# Altium schematic symbol library Resistor.SchLib: 52 symbols
Pins are listed as number, name and electrical type; pins without a type are passive.

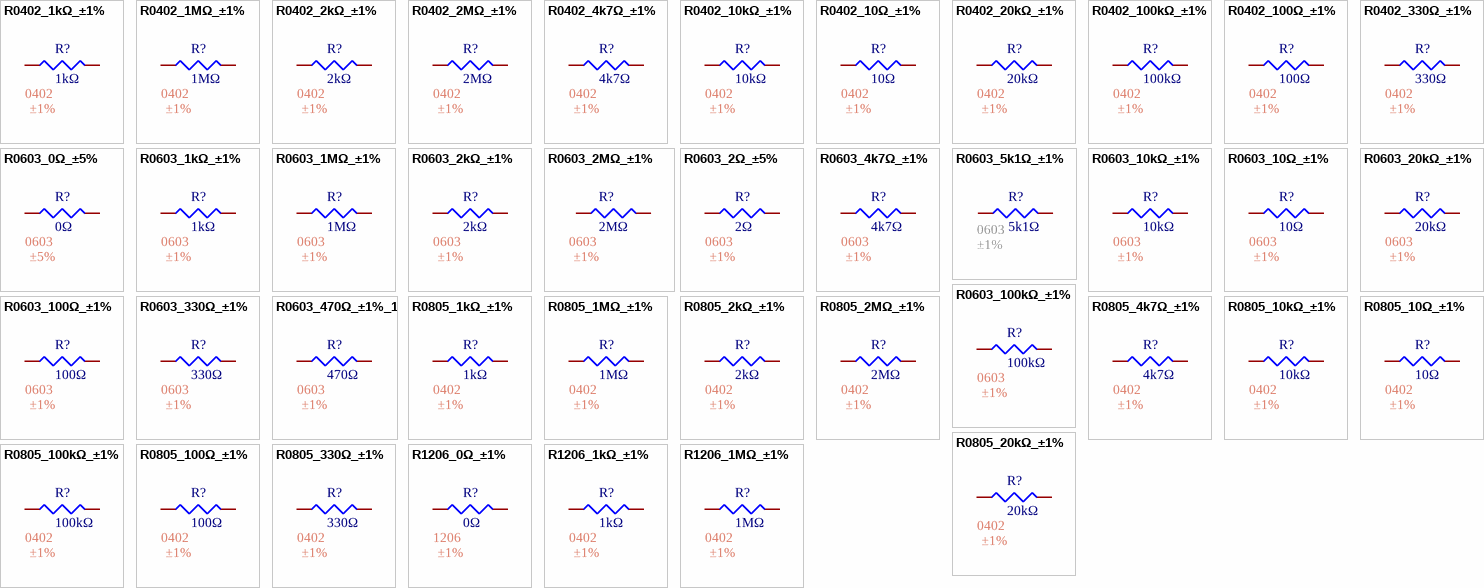
[diagram p0: symbols R0402_1kΩ_±1% to R1206_1MΩ_±1%]

## R0402_1kΩ_±1%
designator R?, comment 1kΩ  Tolerance: ±1%  Package: 0402
62.5mW Thick Film Resistor 50V ±1% ±200ppm/℃ 10Ω 0402 Chip Resistor - Surface Mount ROHS; Manufacturer: YAGEO; Mfr. Part #: RC0402FR-0710RL; LCSC Part #: C138066; Resistance: 1kΩ; Link: https://www.lcsc.com/product-detail/C138066.html?s_z=n_resistor%25200402%252010R
footprint R0402
pins: 1, 2

## R0402_1MΩ_±1%
designator R?, comment 1MΩ  Tolerance: ±1%  Package: 0402
62.5mW Thick Film Resistor 50V ±1% ±200ppm/℃ 10Ω 0402 Chip Resistor - Surface Mount ROHS; Manufacturer: YAGEO; Mfr. Part #: RC0402FR-0710RL; LCSC Part #: C138066; Resistance: 1MΩ; Link: https://www.lcsc.com/product-detail/C138066.html?s_z=n_resistor%25200402%252010R
footprint R0402
pins: 1, 2

## R0402_2kΩ_±1%
designator R?, comment 2kΩ  Tolerance: ±1%  Package: 0402
62.5mW Thick Film Resistor 50V ±1% ±200ppm/℃ 10Ω 0402 Chip Resistor - Surface Mount ROHS; Manufacturer: YAGEO; Mfr. Part #: RC0402FR-0710RL; LCSC Part #: C138066; Resistance: 2kΩ; Link: https://www.lcsc.com/product-detail/C138066.html?s_z=n_resistor%25200402%252010R
footprint R0402
pins: 1, 2

## R0402_2MΩ_±1%
designator R?, comment 2MΩ  Tolerance: ±1%  Package: 0402
62.5mW Thick Film Resistor 50V ±1% ±200ppm/℃ 10Ω 0402 Chip Resistor - Surface Mount ROHS; Manufacturer: YAGEO; Mfr. Part #: RC0402FR-0710RL; LCSC Part #: C138066; Resistance: 2MΩ; Link: https://www.lcsc.com/product-detail/C138066.html?s_z=n_resistor%25200402%252010R
footprint R0402
pins: 1, 2

## R0402_4k7Ω_±1%
designator R?, comment 4k7Ω  Tolerance: ±1%  Package: 0402
62.5mW Thick Film Resistor 50V ±1% ±200ppm/℃ 10Ω 0402 Chip Resistor - Surface Mount ROHS; Manufacturer: YAGEO; Mfr. Part #: RC0402FR-0710RL; LCSC Part #: C138066; Resistance: 4k7Ω; Link: https://www.lcsc.com/product-detail/C138066.html?s_z=n_resistor%25200402%252010R
footprint R0402
pins: 1, 2

## R0402_10kΩ_±1%
designator R?, comment 10kΩ  Tolerance: ±1%  Package: 0402
62.5mW Thick Film Resistor 50V ±1% ±200ppm/℃ 10Ω 0402 Chip Resistor - Surface Mount ROHS; Manufacturer: YAGEO; Mfr. Part #: RC0402FR-0710RL; LCSC Part #: C138066; Resistance: 10kΩ; Link: https://www.lcsc.com/product-detail/C138066.html?s_z=n_resistor%25200402%252010R
footprint R0402
pins: 1, 2

## R0402_10Ω_±1%
designator R?, comment 10Ω  Tolerance: ±1%  Package: 0402
62.5mW Thick Film Resistor 50V ±1% ±200ppm/℃ 10Ω 0402 Chip Resistor - Surface Mount ROHS; Manufacturer: YAGEO; Mfr. Part #: RC0402FR-0710RL; LCSC Part #: C138066; Resistance: 10Ω; Link: https://www.lcsc.com/product-detail/C138066.html?s_z=n_resistor%25200402%252010R
footprint R0402
pins: 1, 2

## R0402_20kΩ_±1%
designator R?, comment 20kΩ  Tolerance: ±1%  Package: 0402
62.5mW Thick Film Resistor 50V ±1% ±200ppm/℃ 10Ω 0402 Chip Resistor - Surface Mount ROHS; Manufacturer: YAGEO; Mfr. Part #: RC0402FR-0710RL; LCSC Part #: C138066; Resistance: 20kΩ; Link: https://www.lcsc.com/product-detail/C138066.html?s_z=n_resistor%25200402%252010R
footprint R0402
pins: 1, 2

## R0402_100kΩ_±1%
designator R?, comment 100kΩ  Tolerance: ±1%  Package: 0402
62.5mW Thick Film Resistor 50V ±1% ±200ppm/℃ 10Ω 0402 Chip Resistor - Surface Mount ROHS; Manufacturer: YAGEO; Mfr. Part #: RC0402FR-0710RL; LCSC Part #: C138066; Resistance: 100kΩ; Link: https://www.lcsc.com/product-detail/C138066.html?s_z=n_resistor%25200402%252010R
footprint R0402
pins: 1, 2

## R0402_100Ω_±1%
designator R?, comment 100Ω  Tolerance: ±1%  Package: 0402
62.5mW Thick Film Resistor 50V ±1% ±200ppm/℃ 10Ω 0402 Chip Resistor - Surface Mount ROHS; Manufacturer: YAGEO; Mfr. Part #: RC0402FR-0710RL; LCSC Part #: C138066; Resistance: 100Ω; Link: https://www.lcsc.com/product-detail/C138066.html?s_z=n_resistor%25200402%252010R
footprint R0402
pins: 1, 2

## R0402_330Ω_±1%
designator R?, comment 330Ω  Tolerance: ±1%  Package: 0402
62.5mW Thick Film Resistor 50V ±1% ±200ppm/℃ 10Ω 0402 Chip Resistor - Surface Mount ROHS; Manufacturer: YAGEO; Mfr. Part #: RC0402FR-0710RL; LCSC Part #: C138066; Resistance: 330Ω; Link: https://www.lcsc.com/product-detail/C138066.html?s_z=n_resistor%25200402%252010R
footprint R0402
pins: 1, 2

## R0603_0Ω_±5%
designator R?, comment 0Ω  Tolerance: ±5%  Package: 0603
100mW Thick Film Resistor 75V ±5% 0Ω 0603 Chip Resistor - Surface Mount ROHS; Manufacturer: YAGEO; Mfr. Part #: RC0603JR-070RL; Key Attributes: RES 0Ω ±5% 100mW 0603; LCSC Part #: C95177; Resistance: 0Ω; Link: https://www.lcsc.com/product-detail/C138066.html?s_z=n_resistor%25200402%252010R
footprint R0603
pins: 1, 2

## R0603_1kΩ_±1%
designator R?, comment 1kΩ  Tolerance: ±1%  Package: 0603
62.5mW Thick Film Resistor 50V ±1% ±200ppm/℃ 10Ω 0402 Chip Resistor - Surface Mount ROHS; Manufacturer: YAGEO; Mfr. Part #: RC0402FR-0710RL; LCSC Part #: C138066; Resistance: 1kΩ; Link: https://www.lcsc.com/product-detail/C138066.html?s_z=n_resistor%25200402%252010R
footprint R0603
pins: 1, 2

## R0603_1MΩ_±1%
designator R?, comment 1MΩ  Tolerance: ±1%  Package: 0603
62.5mW Thick Film Resistor 50V ±1% ±200ppm/℃ 10Ω 0402 Chip Resistor - Surface Mount ROHS; Manufacturer: YAGEO; Mfr. Part #: RC0402FR-0710RL; LCSC Part #: C138066; Resistance: 1MΩ; Link: https://www.lcsc.com/product-detail/C138066.html?s_z=n_resistor%25200402%252010R
footprint R0603
pins: 1, 2

## R0603_2kΩ_±1%
designator R?, comment 2kΩ  Tolerance: ±1%  Package: 0603
62.5mW Thick Film Resistor 50V ±1% ±200ppm/℃ 10Ω 0402 Chip Resistor - Surface Mount ROHS; Manufacturer: YAGEO; Mfr. Part #: RC0402FR-0710RL; LCSC Part #: C138066; Resistance: 2kΩ; Link: https://www.lcsc.com/product-detail/C138066.html?s_z=n_resistor%25200402%252010R
footprint R0603
pins: 1, 2

## R0603_2MΩ_±1%
designator R?, comment 2MΩ  Tolerance: ±1%  Package: 0603
62.5mW Thick Film Resistor 50V ±1% ±200ppm/℃ 10Ω 0402 Chip Resistor - Surface Mount ROHS; Manufacturer: YAGEO; Mfr. Part #: RC0402FR-0710RL; LCSC Part #: C138066; Resistance: 2MΩ; Link: https://www.lcsc.com/product-detail/C138066.html?s_z=n_resistor%25200402%252010R
footprint R0603
pins: 1, 2

## R0603_2Ω_±5%
designator R?, comment 2Ω  Tolerance: ±1%  Package: 0603
100mW Thick Film Resistor 75V ±1% ±200ppm/℃ 2Ω 0603 Chip Resistor - Surface Mount ROHS; Manufacturer: YAGEO; Mfr. Part #: RC0603FR-072RL; Key Attributes: RES 0Ω ±5% 100mW 0603; LCSC Part #: C185341; Resistance: 2Ω; Link: https://www.lcsc.com/product-detail/C185341.html?s_z=n_resistor%2520yageo%25202%25CE%25A9%25200603
footprint R0603
pins: 1, 2

## R0603_4k7Ω_±1%
designator R?, comment 4k7Ω  Tolerance: ±1%  Package: 0603
62.5mW Thick Film Resistor 50V ±1% ±200ppm/℃ 10Ω 0402 Chip Resistor - Surface Mount ROHS; Manufacturer: YAGEO; Mfr. Part #: RC0402FR-0710RL; LCSC Part #: C138066; Resistance: 4k7Ω; Link: https://www.lcsc.com/product-detail/C138066.html?s_z=n_resistor%25200402%252010R
footprint R0603
pins: 1, 2

## R0603_5k1Ω_±1%
designator R?, comment 5k1Ω  Tolerance: ±1%  Package: 0603
100mW Thick Film Resistor 75V ±100ppm/℃ ±1% 5.1kΩ 0603 Chip Resistor - Surface Mount ROHS; Manufacturer: FOJAN; Mfr. Part #: FRC0603F5101TS; Key Attributes: RES 5.1kΩ ±1% 100mW 0603; LCSC Part #: C2907044; Link: https://www.lcsc.com/product-detail/C2907044.html?s_z=n_5k1%25200603; Resistance: 5k1Ω
footprint R0603
pins: 1, 2

## R0603_10kΩ_±1%
designator R?, comment 10kΩ  Tolerance: ±1%  Package: 0603
62.5mW Thick Film Resistor 50V ±1% ±200ppm/℃ 10Ω 0402 Chip Resistor - Surface Mount ROHS; Manufacturer: YAGEO; Mfr. Part #: RC0402FR-0710RL; LCSC Part #: C138066; Resistance: 10kΩ; Link: https://www.lcsc.com/product-detail/C138066.html?s_z=n_resistor%25200402%252010R
footprint R0603
pins: 1, 2

## R0603_10Ω_±1%
designator R?, comment 10Ω  Tolerance: ±1%  Package: 0603
62.5mW Thick Film Resistor 50V ±1% ±200ppm/℃ 10Ω 0402 Chip Resistor - Surface Mount ROHS; Manufacturer: YAGEO; Mfr. Part #: RC0402FR-0710RL; LCSC Part #: C138066; Resistance: 10Ω; Link: https://www.lcsc.com/product-detail/C138066.html?s_z=n_resistor%25200402%252010R
footprint R0603
pins: 1, 2

## R0603_20kΩ_±1%
designator R?, comment 20kΩ  Tolerance: ±1%  Package: 0603
62.5mW Thick Film Resistor 50V ±1% ±200ppm/℃ 10Ω 0402 Chip Resistor - Surface Mount ROHS; Manufacturer: YAGEO; Mfr. Part #: RC0402FR-0710RL; LCSC Part #: C138066; Resistance: 20kΩ; Link: https://www.lcsc.com/product-detail/C138066.html?s_z=n_resistor%25200402%252010R
footprint R0603
pins: 1, 2

## R0603_100kΩ_±1%
designator R?, comment 100kΩ  Tolerance: ±1%  Package: 0603
62.5mW Thick Film Resistor 50V ±1% ±200ppm/℃ 10Ω 0402 Chip Resistor - Surface Mount ROHS; Manufacturer: YAGEO; Mfr. Part #: RC0402FR-0710RL; LCSC Part #: C138066; Resistance: 100kΩ; Link: https://www.lcsc.com/product-detail/C138066.html?s_z=n_resistor%25200402%252010R
footprint R0603
pins: 1, 2

## R0603_100Ω_±1%
designator R?, comment 100Ω  Tolerance: ±1%  Package: 0603
62.5mW Thick Film Resistor 50V ±1% ±200ppm/℃ 10Ω 0402 Chip Resistor - Surface Mount ROHS; Manufacturer: YAGEO; Mfr. Part #: RC0402FR-0710RL; LCSC Part #: C138066; Resistance: 100Ω; Link: https://www.lcsc.com/product-detail/C138066.html?s_z=n_resistor%25200402%252010R
footprint R0603
pins: 1, 2

## R0603_330Ω_±1%
designator R?, comment 330Ω  Tolerance: ±1%  Package: 0603
62.5mW Thick Film Resistor 50V ±1% ±200ppm/℃ 10Ω 0402 Chip Resistor - Surface Mount ROHS; Manufacturer: YAGEO; Mfr. Part #: RC0402FR-0710RL; LCSC Part #: C138066; Resistance: 330Ω; Link: https://www.lcsc.com/product-detail/C138066.html?s_z=n_resistor%25200402%252010R
footprint R0603
pins: 1, 2

## R0603_470Ω_±1%_1
designator R?, comment 470Ω  Tolerance: ±1%  Package: 0603
62.5mW Thick Film Resistor 50V ±1% ±200ppm/℃ 10Ω 0402 Chip Resistor - Surface Mount ROHS; Manufacturer: YAGEO; Mfr. Part #: RC0603FR-07470RL; Key Attributes: RES 470Ω ±1% 100mW 0603; LCSC Part #: C114669; Resistance: 470Ω; Link: https://www.lcsc.com/product-detail/C114669.html?s_z=n_resistor%2520470%25CE%25A9%25200603%2520yageo
footprint R0603
pins: 1, 2

## R0805_1kΩ_±1%
designator R?, comment 1kΩ  Tolerance: ±1%  Package: 0402
62.5mW Thick Film Resistor 50V ±1% ±200ppm/℃ 10Ω 0402 Chip Resistor - Surface Mount ROHS; Manufacturer: YAGEO; Mfr. Part #: RC0402FR-0710RL; LCSC Part #: C138066; Resistance: 1kΩ; Link: https://www.lcsc.com/product-detail/C138066.html?s_z=n_resistor%25200402%252010R
footprint R0805
pins: 1, 2

## R0805_1MΩ_±1%
designator R?, comment 1MΩ  Tolerance: ±1%  Package: 0402
62.5mW Thick Film Resistor 50V ±1% ±200ppm/℃ 10Ω 0402 Chip Resistor - Surface Mount ROHS; Manufacturer: YAGEO; Mfr. Part #: RC0402FR-0710RL; LCSC Part #: C138066; Resistance: 1MΩ; Link: https://www.lcsc.com/product-detail/C138066.html?s_z=n_resistor%25200402%252010R
footprint R0805
pins: 1, 2

## R0805_2kΩ_±1%
designator R?, comment 2kΩ  Tolerance: ±1%  Package: 0402
62.5mW Thick Film Resistor 50V ±1% ±200ppm/℃ 10Ω 0402 Chip Resistor - Surface Mount ROHS; Manufacturer: YAGEO; Mfr. Part #: RC0402FR-0710RL; LCSC Part #: C138066; Resistance: 2kΩ; Link: https://www.lcsc.com/product-detail/C138066.html?s_z=n_resistor%25200402%252010R
footprint R0805
pins: 1, 2

## R0805_2MΩ_±1%
designator R?, comment 2MΩ  Tolerance: ±1%  Package: 0402
62.5mW Thick Film Resistor 50V ±1% ±200ppm/℃ 10Ω 0402 Chip Resistor - Surface Mount ROHS; Manufacturer: YAGEO; Mfr. Part #: RC0402FR-0710RL; LCSC Part #: C138066; Resistance: 2MΩ; Link: https://www.lcsc.com/product-detail/C138066.html?s_z=n_resistor%25200402%252010R
footprint R0805
pins: 1, 2

## R0805_4k7Ω_±1%
designator R?, comment 4k7Ω  Tolerance: ±1%  Package: 0402
62.5mW Thick Film Resistor 50V ±1% ±200ppm/℃ 10Ω 0402 Chip Resistor - Surface Mount ROHS; Manufacturer: YAGEO; Mfr. Part #: RC0402FR-0710RL; LCSC Part #: C138066; Resistance: 4k7Ω; Link: https://www.lcsc.com/product-detail/C138066.html?s_z=n_resistor%25200402%252010R
footprint R0805
pins: 1, 2

## R0805_10kΩ_±1%
designator R?, comment 10kΩ  Tolerance: ±1%  Package: 0402
62.5mW Thick Film Resistor 50V ±1% ±200ppm/℃ 10Ω 0402 Chip Resistor - Surface Mount ROHS; Manufacturer: YAGEO; Mfr. Part #: RC0402FR-0710RL; LCSC Part #: C138066; Resistance: 10kΩ; Link: https://www.lcsc.com/product-detail/C138066.html?s_z=n_resistor%25200402%252010R
footprint R0805
pins: 1, 2

## R0805_10Ω_±1%
designator R?, comment 10Ω  Tolerance: ±1%  Package: 0402
62.5mW Thick Film Resistor 50V ±1% ±200ppm/℃ 10Ω 0402 Chip Resistor - Surface Mount ROHS; Manufacturer: YAGEO; Mfr. Part #: RC0402FR-0710RL; LCSC Part #: C138066; Resistance: 10Ω; Link: https://www.lcsc.com/product-detail/C138066.html?s_z=n_resistor%25200402%252010R
footprint R0805
pins: 1, 2

## R0805_20kΩ_±1%
designator R?, comment 20kΩ  Tolerance: ±1%  Package: 0402
62.5mW Thick Film Resistor 50V ±1% ±200ppm/℃ 10Ω 0402 Chip Resistor - Surface Mount ROHS; Manufacturer: YAGEO; Mfr. Part #: RC0402FR-0710RL; LCSC Part #: C138066; Resistance: 20kΩ; Link: https://www.lcsc.com/product-detail/C138066.html?s_z=n_resistor%25200402%252010R
footprint R0805
pins: 1, 2

## R0805_100kΩ_±1%
designator R?, comment 100kΩ  Tolerance: ±1%  Package: 0402
62.5mW Thick Film Resistor 50V ±1% ±200ppm/℃ 10Ω 0402 Chip Resistor - Surface Mount ROHS; Manufacturer: YAGEO; Mfr. Part #: RC0402FR-0710RL; LCSC Part #: C138066; Resistance: 100kΩ; Link: https://www.lcsc.com/product-detail/C138066.html?s_z=n_resistor%25200402%252010R
footprint R0805
pins: 1, 2

## R0805_100Ω_±1%
designator R?, comment 100Ω  Tolerance: ±1%  Package: 0402
62.5mW Thick Film Resistor 50V ±1% ±200ppm/℃ 10Ω 0402 Chip Resistor - Surface Mount ROHS; Manufacturer: YAGEO; Mfr. Part #: RC0402FR-0710RL; LCSC Part #: C138066; Resistance: 100Ω; Link: https://www.lcsc.com/product-detail/C138066.html?s_z=n_resistor%25200402%252010R
footprint R0805
pins: 1, 2

## R0805_330Ω_±1%
designator R?, comment 330Ω  Tolerance: ±1%  Package: 0402
62.5mW Thick Film Resistor 50V ±1% ±200ppm/℃ 10Ω 0402 Chip Resistor - Surface Mount ROHS; Manufacturer: YAGEO; Mfr. Part #: RC0402FR-0710RL; LCSC Part #: C138066; Resistance: 330Ω; Link: https://www.lcsc.com/product-detail/C138066.html?s_z=n_resistor%25200402%252010R
footprint R0805
pins: 1, 2

## R1206_0Ω_±1%
designator R?, comment 0Ω  Tolerance: ±1%  Package: 1206
62.5mW Thick Film Resistor 50V ±1% ±200ppm/℃ 10Ω 0402 Chip Resistor - Surface Mount ROHS; Manufacturer: YAGEO; Mfr. Part #: RC1206JR-070RL; LCSC Part #: C108081; Resistance: 0Ω; Link: https://www.lcsc.com/product-detail/C108081.html?s_z=n_resistor%25201206%25200R
footprint R1206
pins: 1, 2

## R1206_1kΩ_±1%
designator R?, comment 1kΩ  Tolerance: ±1%  Package: 0402
62.5mW Thick Film Resistor 50V ±1% ±200ppm/℃ 10Ω 0402 Chip Resistor - Surface Mount ROHS; Manufacturer: YAGEO; Mfr. Part #: RC0402FR-0710RL; LCSC Part #: C138066; Resistance: 1kΩ; Link: https://www.lcsc.com/product-detail/C138066.html?s_z=n_resistor%25200402%252010R
footprint R1206
pins: 1, 2

## R1206_1MΩ_±1%
designator R?, comment 1MΩ  Tolerance: ±1%  Package: 0402
62.5mW Thick Film Resistor 50V ±1% ±200ppm/℃ 10Ω 0402 Chip Resistor - Surface Mount ROHS; Manufacturer: YAGEO; Mfr. Part #: RC0402FR-0710RL; LCSC Part #: C138066; Resistance: 1MΩ; Link: https://www.lcsc.com/product-detail/C138066.html?s_z=n_resistor%25200402%252010R
footprint R1206
pins: 1, 2

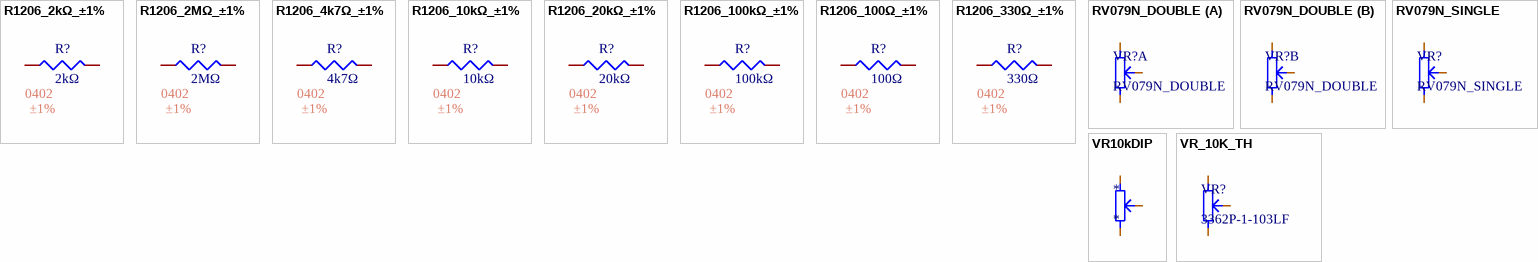
[diagram p1: symbols R1206_2kΩ_±1% to VR_10K_TH]

## R1206_2kΩ_±1%
designator R?, comment 2kΩ  Tolerance: ±1%  Package: 0402
62.5mW Thick Film Resistor 50V ±1% ±200ppm/℃ 10Ω 0402 Chip Resistor - Surface Mount ROHS; Manufacturer: YAGEO; Mfr. Part #: RC0402FR-0710RL; LCSC Part #: C138066; Resistance: 2kΩ; Link: https://www.lcsc.com/product-detail/C138066.html?s_z=n_resistor%25200402%252010R
footprint R1206
pins: 1, 2

## R1206_2MΩ_±1%
designator R?, comment 2MΩ  Tolerance: ±1%  Package: 0402
62.5mW Thick Film Resistor 50V ±1% ±200ppm/℃ 10Ω 0402 Chip Resistor - Surface Mount ROHS; Manufacturer: YAGEO; Mfr. Part #: RC0402FR-0710RL; LCSC Part #: C138066; Resistance: 2MΩ; Link: https://www.lcsc.com/product-detail/C138066.html?s_z=n_resistor%25200402%252010R
footprint R1206
pins: 1, 2

## R1206_4k7Ω_±1%
designator R?, comment 4k7Ω  Tolerance: ±1%  Package: 0402
62.5mW Thick Film Resistor 50V ±1% ±200ppm/℃ 10Ω 0402 Chip Resistor - Surface Mount ROHS; Manufacturer: YAGEO; Mfr. Part #: RC0402FR-0710RL; LCSC Part #: C138066; Resistance: 4k7Ω; Link: https://www.lcsc.com/product-detail/C138066.html?s_z=n_resistor%25200402%252010R
footprint R1206
pins: 1, 2

## R1206_10kΩ_±1%
designator R?, comment 10kΩ  Tolerance: ±1%  Package: 0402
62.5mW Thick Film Resistor 50V ±1% ±200ppm/℃ 10Ω 0402 Chip Resistor - Surface Mount ROHS; Manufacturer: YAGEO; Mfr. Part #: RC0402FR-0710RL; LCSC Part #: C138066; Resistance: 10kΩ; Link: https://www.lcsc.com/product-detail/C138066.html?s_z=n_resistor%25200402%252010R
footprint R1206
pins: 1, 2

## R1206_20kΩ_±1%
designator R?, comment 20kΩ  Tolerance: ±1%  Package: 0402
62.5mW Thick Film Resistor 50V ±1% ±200ppm/℃ 10Ω 0402 Chip Resistor - Surface Mount ROHS; Manufacturer: YAGEO; Mfr. Part #: RC0402FR-0710RL; LCSC Part #: C138066; Resistance: 20kΩ; Link: https://www.lcsc.com/product-detail/C138066.html?s_z=n_resistor%25200402%252010R
footprint R1206
pins: 1, 2

## R1206_100kΩ_±1%
designator R?, comment 100kΩ  Tolerance: ±1%  Package: 0402
62.5mW Thick Film Resistor 50V ±1% ±200ppm/℃ 10Ω 0402 Chip Resistor - Surface Mount ROHS; Manufacturer: YAGEO; Mfr. Part #: RC0402FR-0710RL; LCSC Part #: C138066; Resistance: 100kΩ; Link: https://www.lcsc.com/product-detail/C138066.html?s_z=n_resistor%25200402%252010R
footprint R1206
pins: 1, 2

## R1206_100Ω_±1%
designator R?, comment 100Ω  Tolerance: ±1%  Package: 0402
62.5mW Thick Film Resistor 50V ±1% ±200ppm/℃ 10Ω 0402 Chip Resistor - Surface Mount ROHS; Manufacturer: YAGEO; Mfr. Part #: RC0402FR-0710RL; LCSC Part #: C138066; Resistance: 100Ω; Link: https://www.lcsc.com/product-detail/C138066.html?s_z=n_resistor%25200402%252010R
footprint R1206
pins: 1, 2

## R1206_330Ω_±1%
designator R?, comment 330Ω  Tolerance: ±1%  Package: 0402
62.5mW Thick Film Resistor 50V ±1% ±200ppm/℃ 10Ω 0402 Chip Resistor - Surface Mount ROHS; Manufacturer: YAGEO; Mfr. Part #: RC0402FR-0710RL; LCSC Part #: C138066; Resistance: 330Ω; Link: https://www.lcsc.com/product-detail/C138066.html?s_z=n_resistor%25200402%252010R
footprint R1206
pins: 1, 2

## RV079N_DOUBLE
designator VR?
footprint RK079N_DOUBLE
part A pins: 1, 2, 3
part B pins: 4, 5, 6

## RV079N_SINGLE
designator VR?
footprint RK079N_SINGLE
pins: 1, 2, 3

## VR10kDIP
designator *
footprint VR-DIP
pins: 1, 2, 3

## VR_10K_TH
designator VR?, comment 3362P-1-103LF
±10% ±100ppm/℃ 500mW 10kΩ Through Hole-3P,7x6.6mm Trimmer Potentiometers RoHS; Manufacturer: BOURNS; Key Attributes: POT 10kΩ 500mW Through Hole-3P,7x6.6mm; Mfr. Part #: 3362P-1-103LF; LCSC Part #: C58159; Package: Through Hole-3P,7x6.6mm; Link: https://www.lcsc.com/product-detail/C58159.html?s_z=n_variable
footprint 3362P-1-103LF (±10% ±100ppm/? 500mW 10kO Through Hole-3P,7x6.6mm Trimmer Potentiometers RoHS)
pins: 1, 2, 3